# Altium footprint library TSSOP_55P_M.PcbLib: 2 footprints
Each footprint in its own frame and in the unit in brackets; x right, y up, seen from the top. Pads: shape width x height; smd on the part's side, far side on the other; paste and mask are expansions set on the pad; w line width, h text height; cw(c..) or ccw(c..) is an arc to the next point about the centre after c.
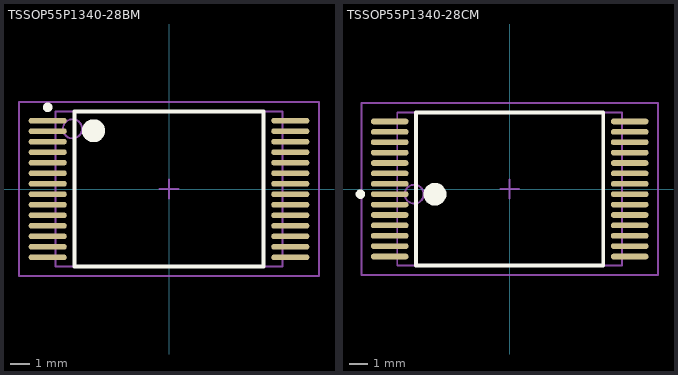
[diagram p0: the footprints below, top view; thin cyan lines are the x and y axes]

## TSSOP55P1340-28BM [mm] "TSSOP, 28-Leads, Body 8x11.8mm, Pitch 0.55mm, IPC Low Density"
height 1.2
pads (28):
  oval 2x0.3 smd: 1(-6.35,3.575) 2(-6.35,3.025) 3(-6.35,2.475) 4(-6.35,1.925) 5(-6.35,1.375) 6(-6.35,0.825) 7(-6.35,0.275) 8(-6.35,-0.275) 9(-6.35,-0.825) 10(-6.35,-1.375) 11(-6.35,-1.925) 12(-6.35,-2.475) 13(-6.35,-3.025) 14(-6.35,-3.575) 15(6.35,-3.575) 16(6.35,-3.025) 17(6.35,-2.475) 18(6.35,-1.925) 19(6.35,-1.375) 20(6.35,-0.825) 21(6.35,-0.275) 22(6.35,0.275) 23(6.35,0.825) 24(6.35,1.375) 25(6.35,1.925) 26(6.35,2.475) 27(6.35,3.025) 28(6.35,3.575)
Top Overlay:
  circle w0.6: c-3.95,3.05 r0.3
  circle w0.25: c-6.35,4.275 r0.125
  lines w0.2: -4.95,-4.05 4.95,-4.05 4.95,4.05 -4.95,4.05 -4.95,-4.05
Mechanical 13:
  circle w0.1: c-5.05,3.15 r0.5
  lines w0.1: -5.95,-4.05 5.95,-4.05 5.95,4.05 -5.95,4.05 -5.95,-4.05
Mechanical 15:
  lines w0.1: -0.5,0 0.5,0 ; 0,-0.5 0,0.5 ; -7.85,-4.55 7.85,-4.55 7.85,4.55 -7.85,4.55 -7.85,-4.55
3D body: height 1.2, standoff 0, extent -5.95,-4.05 5.95,4.05

## TSSOP55P1340-28CM [mm] "TSSOP, 28-Leads, Body 8x11.8mm, Pitch 0.55mm, Unconventional Pinout, IPC Low Density"
height 1.2
pads (28):
  oval 2x0.3 smd: 1(-6.35,-0.275) 2(-6.35,-0.825) 3(-6.35,-1.375) 4(-6.35,-1.925) 5(-6.35,-2.475) 6(-6.35,-3.025) 7(-6.35,-3.575) 8(6.35,-3.575) 9(6.35,-3.025) 10(6.35,-2.475) 11(6.35,-1.925) 12(6.35,-1.375) 13(6.35,-0.825) 14(6.35,-0.275) 15(6.35,0.275) 16(6.35,0.825) 17(6.35,1.375) 18(6.35,1.925) 19(6.35,2.475) 20(6.35,3.025) 21(6.35,3.575) 22(-6.35,3.575) 23(-6.35,3.025) 24(-6.35,2.475) 25(-6.35,1.925) 26(-6.35,1.375) 27(-6.35,0.825) 28(-6.35,0.275)
Top Overlay:
  circle w0.25: c-7.9,-0.275 r0.125
  circle w0.6: c-3.95,-0.275 r0.3
  lines w0.2: -4.95,-4.05 -4.95,4.05 4.95,4.05 4.95,-4.05 -4.95,-4.05
Mechanical 13:
  circle w0.1: c-5.05,-0.275 r0.5
  lines w0.1: -5.95,-4.05 -5.95,4.05 5.95,4.05 5.95,-4.05 -5.95,-4.05
Mechanical 15:
  lines w0.1: -0.5,0 0.5,0 ; 0,-0.5 0,0.5 ; -7.85,-4.55 -7.85,4.55 7.85,4.55 7.85,-4.55 -7.85,-4.55
3D body: height 1.2, standoff 0, extent -5.95,-4.05 5.95,4.05